# Altium footprint library bigPin_power_port.PcbLib: 1 footprints
Each footprint in its own frame and in the unit in brackets; x right, y up, seen from the top. Pads: shape width x height; smd on the part's side, far side on the other; paste and mask are expansions set on the pad; w line width, h text height; cw(c..) or ccw(c..) is an arc to the next point about the centre after c.
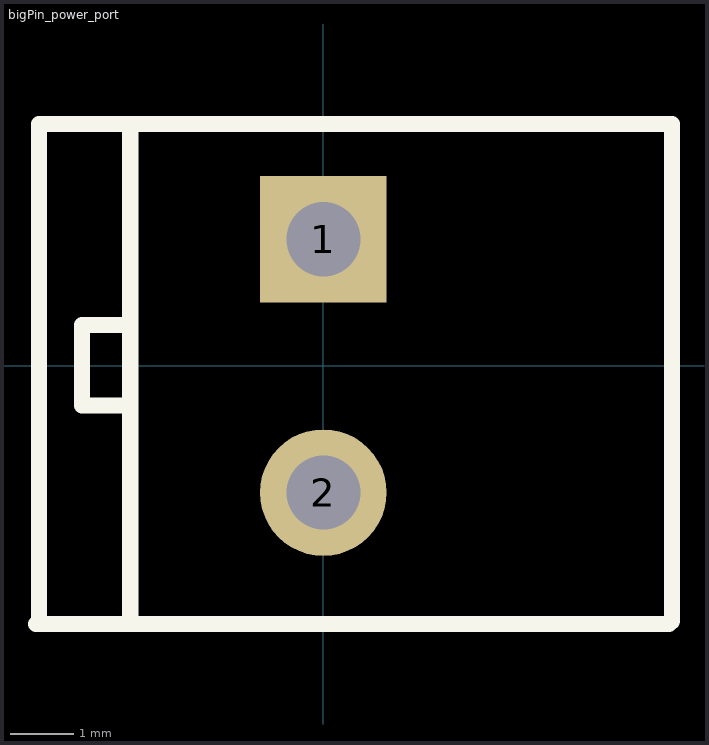
[diagram p0: the footprint, top view; thin cyan lines are the x and y axes]

## bigPin_power_port [mm]
pads (2):
  rect 2x2 hole 1.17: 1(0,2)
  round 2 hole 1.17: 2(0,-2)
Top Overlay:
  lines w0.254: -4.539,-4.077 5.461,-4.077 ; -4.492,-4.03 -4.492,3.823 5.508,3.823 5.508,-4.03 ; -3.048,-4.077 -3.048,3.823 ; -3.048,-0.622 -3.81,-0.622 -3.81,0.648 -3.048,0.648